# Altium footprint library PMP40182_PCB.PcbLib: 32 footprints (part 2 of 2)
Each footprint in its own frame and in the unit in brackets; x right, y up, seen from the top. Pads: shape width x height; smd on the part's side, far side on the other; paste and mask are expansions set on the pad; w line width, h text height; cw(c..) or ccw(c..) is an arc to the next point about the centre after c.
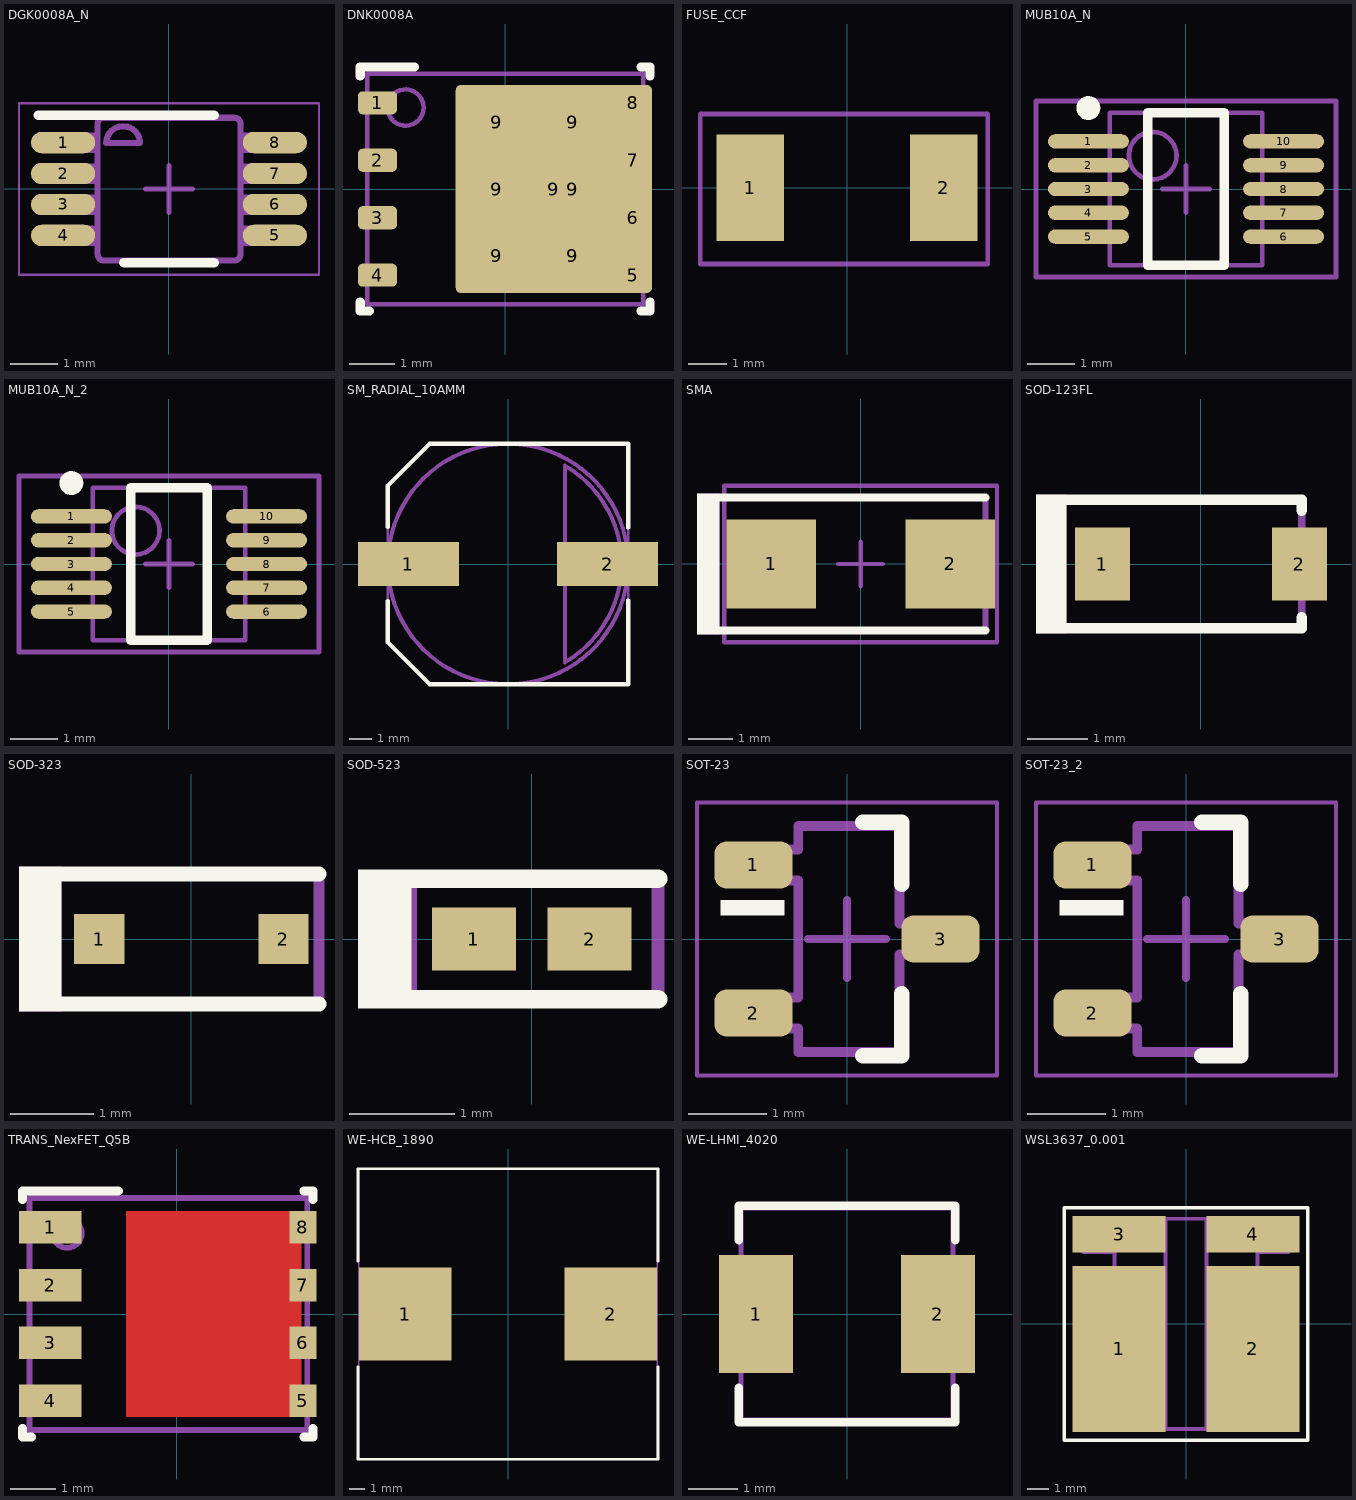
[diagram p1: the footprints below, top view; thin cyan lines are the x and y axes]

## DGK0008A_N [mm]
pads (8):
  oval 1.35x0.45 smd: 1(-2.225,0.975) 2(-2.225,0.325) 3(-2.225,-0.325) 4(-2.225,-0.975) 5(2.225,-0.975) 6(2.225,-0.325) 7(2.225,0.325) 8(2.225,0.975)
Top Overlay:
  lines w0.2: -2.75,1.55 0.95,1.55 ; -0.95,-1.55 0.95,-1.55
Mechanical 5:
  lines w0.127: -2.45,-1.131 -2.45,-0.826 -2.21,-0.826 -2.091,-0.826 -2.087,-0.826 -1.784,-0.826 -1.498,-0.826 -1.498,-1.131 -1.784,-1.131 -2.087,-1.131 -2.091,-1.131 -2.21,-1.131 -2.45,-1.131 ; -2.45,-0.48 -2.45,-0.175 -2.21,-0.175 -2.091,-0.175 -2.087,-0.175 -1.784,-0.175 -1.498,-0.175 -1.498,-0.48 -1.784,-0.48 -2.087,-0.48 -2.091,-0.48 -2.21,-0.48 -2.45,-0.48 ; -2.45,0.17 -2.45,0.475 -2.21,0.475 -2.091,0.475 -2.087,0.475 -1.784,0.475 -1.498,0.475 -1.498,0.17 -1.784,0.17 -2.087,0.17 -2.091,0.17 -2.21,0.17 -2.45,0.17 ; -2.45,0.82 -2.45,1.125 -2.21,1.125 -2.091,1.125 -2.087,1.125 -1.784,1.125 -1.498,1.125 -1.498,0.82 -1.784,0.82 -2.087,0.82 -2.091,0.82 -2.21,0.82 -2.45,0.82 ; -1.497,-1.377 ccw(c-1.37,-1.374) -1.373,-1.501 -1.371,-1.501 1.373,-1.501 1.375,-1.501 ccw(c1.373,-1.374) 1.5,-1.377 1.5,-1.374 1.5,1.369 1.5,1.372 ccw(c1.373,1.369) 1.375,1.496 1.373,1.496 -1.371,1.496 -1.373,1.496 ccw(c-1.37,1.369) -1.497,1.372 -1.498,1.369 -1.498,-1.374 -1.497,-1.377 ; -1.32,0.962 cw(c-0.964,0.962) -0.609,0.962 -1.32,0.962 ; 1.5,-1.131 1.786,-1.131 2.089,-1.131 2.093,-1.131 2.213,-1.131 2.452,-1.131 2.452,-0.826 2.213,-0.826 2.093,-0.826 2.089,-0.826 1.786,-0.826 1.5,-0.826 1.5,-1.131 ; 1.5,-0.48 1.786,-0.48 2.089,-0.48 2.093,-0.48 2.213,-0.48 2.452,-0.48 2.452,-0.175 2.213,-0.175 2.093,-0.175 2.089,-0.175 1.786,-0.175 1.5,-0.175 1.5,-0.48 ; 1.5,0.17 1.786,0.17 2.089,0.17 2.093,0.17 2.213,0.17 2.452,0.17 2.452,0.475 2.213,0.475 2.093,0.475 2.089,0.475 1.786,0.475 1.5,0.475 1.5,0.17 ; 1.5,0.82 1.786,0.82 2.089,0.82 2.093,0.82 2.213,0.82 2.452,0.82 2.452,1.125 2.213,1.125 2.093,1.125 2.089,1.125 1.786,1.125 1.5,1.125 1.5,0.82
  text ".Designator" at -1.15,-0.3 h0.64
Mechanical 15:
  lines w0.05: -3.15,-1.8 -3.15,1.8 3.15,1.8 3.15,-1.8 -3.15,-1.8
  lines w0.1: -0.5,0 0.5,0 ; 0,-0.5 0,0.5
3D body "DGK0008A.stp": height 0.96, standoff 0, extent -2.451,-1.499 2.451,1.499

## DNK0008A [mm]
pads (15):
  rrect39% 0.86x0.51 smd paste-0.05 mask-0.05: 1(-2.82,1.905) 2(-2.82,0.635) 3(-2.82,-0.635) 4(-2.82,-1.905) 5(2.82,-1.905) 6(2.82,-0.635) 7(2.82,0.635) 8(2.82,1.905)
  rrect50% 1.48x1.27 on Top Paste: 9(-0.18,-1.47) 9(-0.18,0) 9(-0.18,1.47) 9(1.5,-1.47) 9(1.5,0) 9(1.5,1.47)
  rrect5% 4.34x4.6 smd paste-3 mask-0.05: 9(1.08,0)
Top Overlay:
  lines w0.2: -3.2,-2.5 -3.2,-2.7 -3,-2.7 ; -3.2,2.5 -3.2,2.7 -2,2.7 ; 3,-2.7 3.2,-2.7 3.2,-2.5 ; 3,2.7 3.2,2.7 3.2,2.5
Mechanical 5:
  circle w0.1: c-2.2,1.8 r0.4
  lines w0.1: -3.05,-2.55 -3.05,2.55 3.05,2.55 3.05,-2.55 -3.05,-2.55
  text ".Designator" at -1.524,-0.508 h1.02
3D body: height 1.05, standoff 0, extent -3.05,-2.55 3.05,2.55
3D body: height 1.06, standoff 1.05, extent -2.599,1.401 -1.801,2.199

## FUSE_CCF [mil]
pads (2):
  rect 70x110 smd: 1(-100,0) 2(100,0)
Mechanical 5:
  lines w5: -151.6,-78.7 145.4,-78.7 145.4,76.3 -151.6,76.3 -151.6,-78.7
  text ".Designator" at -73,-20 h40

## MUB10A_N [mm]
pads (10):
  oval 1.7x0.3 smd: 1(-2.05,1) 2(-2.05,0.5) 3(-2.05,0) 4(-2.05,-0.5) 5(-2.05,-1) 6(2.05,-1) 7(2.05,-0.5) 8(2.05,0) 9(2.05,0.5) 10(2.05,1)
Top Overlay:
  circle w0.25: c-2.05,1.7 r0.125
  lines w0.2: -0.8,-1.6 -0.8,1.6 0.8,1.6 0.8,-1.6 -0.8,-1.6
Mechanical 5:
  text ".Designator" at -1.524,-0.508 h1.02
Mechanical 13:
  circle w0.1: c-0.7,0.7 r0.5
  lines w0.1: -1.6,-1.6 -1.6,1.6 1.6,1.6 1.6,-1.6 -1.6,-1.6
Mechanical 15:
  lines w0.1: -0.5,0 0.5,0 ; 0,-0.5 0,0.5 ; -3.15,-1.85 -3.15,1.85 3.15,1.85 3.15,-1.85 -3.15,-1.85
3D body: height 1.09, standoff 0, extent -1.6,-1.6 1.6,1.6

## MUB10A_N_2 [mm]
pads (10):
  oval 1.7x0.3 smd: 1(-2.05,1) 2(-2.05,0.5) 3(-2.05,0) 4(-2.05,-0.5) 5(-2.05,-1) 6(2.05,-1) 7(2.05,-0.5) 8(2.05,0) 9(2.05,0.5) 10(2.05,1)
Top Overlay:
  circle w0.25: c-2.05,1.7 r0.125
  lines w0.2: -0.8,-1.6 -0.8,1.6 0.8,1.6 0.8,-1.6 -0.8,-1.6
Mechanical 5:
  text ".Designator" at -1.524,-0.508 h1.02
Mechanical 13:
  circle w0.1: c-0.7,0.7 r0.5
  lines w0.1: -1.6,-1.6 -1.6,1.6 1.6,1.6 1.6,-1.6 -1.6,-1.6
Mechanical 15:
  lines w0.1: -0.5,0 0.5,0 ; 0,-0.5 0,0.5 ; -3.15,-1.85 -3.15,1.85 3.15,1.85 3.15,-1.85 -3.15,-1.85
3D body: height 1.09, standoff 0, extent -1.6,-1.6 1.6,1.6

## SM_RADIAL_10AMM [mm]
pads (2):
  rect 4.4x1.9 smd: 1(-4.35,0) 2(4.35,0)
Top Overlay:
  lines w0.178: -5.25,-1.624 -5.25,-3.425 -3.425,-5.25 5.25,-5.25 5.25,-1.597 ; -5.25,1.624 -5.25,3.425 -3.425,5.25 5.25,5.25 5.25,1.597
Mechanical 5:
  lines w0.127: -5.25,-3.425 -3.425,-5.25 5.25,-5.25 5.25,-1.597 5.25,1.597 5.25,5.25 -3.425,5.25 -5.25,3.425 -5.25,1.624 -5.25,-1.624 -5.25,-3.425
  text ".Designator" at -1.524,-0.508 h1.02
Mechanical 13:
  circle w0.178: c0,0 r5.25
  lines w0.178: 2.48,-4.296 ccw(c0,0) 2.48,4.296 2.48,-4.296
3D body: height 1, standoff 0, extent -5.251,-5.251 5.251,5.251
3D body: height 8, standoff 1, extent -5.249,-5.249 5.249,5.249
3D body: height 8, standoff 8, extent 2.48,-4.296 4.961,4.296

## SMA [mm]
pads (2):
  rect 2x2 smd: 1(-2,0) 2(2,0)
Top Overlay:
  rectangle: -3.658,-1.575 -3.15,1.575
  lines w0.178: -3.327,-1.486 2.794,-1.486 ; -3.327,1.486 2.794,1.486
Mechanical 5:
  rectangle: -3.658,-1.575 -3.15,1.575
  lines w0.127: -3.327,-1.486 2.794,-1.486 2.794,1.486 -3.327,1.486
  text ".Designator" at -2.769,-0.33 h1.02
Mechanical 15:
  lines w0.1: -0.5,0 0.5,0 ; 0,-0.5 0,0.5 ; -3.05,-1.75 -3.05,1.75 3.05,1.75 3.05,-1.75 -3.05,-1.75
3D body "SMA_nominal.stp": height 2.42, standoff 0.02, extent -2.6,-1.3 2.6,1.3

## SOD-123FL [mm]
pads (2):
  rect 0.915x1.22 smd: 1(-1.637,0) 2(1.637,0)
Top Overlay:
  rectangle: -2.743,-1.156 -2.235,1.156
  lines w0.178: -2.438,-1.067 1.676,-1.067 1.676,-0.889 ; -2.438,1.067 1.676,1.067 1.676,0.889
Mechanical 5:
  rectangle: -2.743,-1.156 -2.235,1.156
  lines w0.127: -2.438,-1.067 1.676,-1.067 1.676,1.067 -2.438,1.067
  text ".Designator" at -1.93,-0.229 h0.76
3D body "SOD-123FL.stp": height 1, standoff 0, extent -1.9,-0.9 1.9,0.9

## SOD-323 [mm]
pads (2):
  rect 0.6x0.6 smd paste-0.05: 1(-1.1,0) 2(1.1,0)
Top Overlay:
  rectangle: -2.057,-0.864 -1.549,0.864
  lines w0.178: -1.803,-0.775 0.1,-0.775 1.525,-0.775 ; -1.803,0.775 0.1,0.775 1.525,0.775
Mechanical 5:
  rectangle: -2.057,-0.864 -1.549,0.864
  lines w0.127: -1.803,-0.775 0.1,-0.775 1.525,-0.775 1.525,0.775 0.1,0.775 -1.803,0.775
  text ".Designator" at -1.4,-0.275 h0.76
3D body "SOD-323.stp": height 1.1, standoff 0, extent -1.3,-0.675 1.3,0.675

## SOD-523 [mm]
pads (2):
  rect 0.8x0.6 smd paste-0.05: 1(-0.55,0) 2(0.55,0)
Top Overlay:
  rectangle: -1.651,-0.66 -1.143,0.66
  lines w0.178: -1.475,-0.572 0,-0.572 1.2,-0.572 ; -1.475,0.572 0,0.572 1.2,0.572
Mechanical 5:
  rectangle: -1.6,-0.635 -1.092,0.635
  lines w0.127: -1.475,-0.546 0,-0.546 1.2,-0.546 1.2,0.546 0,0.559 -1.475,0.559
  text ".Designator" at -0.991,-0.279 h0.56
3D body "SOD-523F.stp": height 0.72, standoff 0.02, extent -0.8,-0.399 0.8,0.399

## SOT-23 [mm]
pads (3):
  rrect50% 1x0.6 smd: 1(-1.2,0.95) 2(-1.2,-0.95) 3(1.2,0)
Top Overlay:
  rectangle: -1.625,0.3 -0.8,0.5
  lines w0.2: 0.2,-1.5 0.7,-1.5 0.7,-0.7 ; 0.2,1.5 0.7,1.5 0.7,0.7
Mechanical 5:
  lines w0.127: -1.16,-1.15 -0.625,-1.15 -0.625,-1.45 0.675,-1.45 0.675,-0.2 1.21,-0.2 1.21,0.2 0.675,0.2 0.675,1.45 -0.625,1.45 -0.625,1.15 -1.16,1.15 -1.16,0.75 -0.625,0.75 -0.625,-0.75 -1.16,-0.75 -1.16,-1.15
  text ".Designator" at -0.175,1.225 h0.64
Mechanical 15:
  lines w0.05: -1.925,-1.75 -1.925,1.75 1.925,1.75 1.925,-1.75 -1.925,-1.75
  lines w0.1: -0.5,0 0.5,0 ; 0,-0.5 0,0.5
3D body "SW3dPS-sot-3p290x130ll237h100.STEP": height 1, standoff 0, extent -1.16,-1.45 1.21,1.45

## SOT-23_2 [mm]
pads (3):
  rrect50% 1x0.6 smd: 1(-1.2,0.95) 2(-1.2,-0.95) 3(1.2,0)
Top Overlay:
  rectangle: -1.625,0.3 -0.8,0.5
  lines w0.2: 0.2,-1.5 0.7,-1.5 0.7,-0.7 ; 0.2,1.5 0.7,1.5 0.7,0.7
Mechanical 5:
  lines w0.127: -1.16,-1.15 -1.16,-0.75 -0.625,-0.75 -0.625,0.75 -1.16,0.75 -1.16,1.15 -0.625,1.15 -0.625,1.45 0.675,1.45 0.675,0.2 1.21,0.2 1.21,-0.2 0.675,-0.2 0.675,-1.45 -0.625,-1.45 -0.625,-1.15 -1.16,-1.15
  text ".Designator" at -0.175,1.225 h0.64
Mechanical 15:
  lines w0.05: -1.925,-1.75 1.925,-1.75 1.925,1.75 -1.925,1.75 -1.925,-1.75
  lines w0.1: -0.5,0 0.5,0 ; 0,-0.5 0,0.5
3D body "SW3dPS-sot-3p290x130ll237h100.STEP": height 1, standoff 0, extent -1.16,-1.45 1.21,1.45

## TRANS_NexFET_Q5B [mm]
pads (8):
  rect 1.372x0.71 smd paste-0.4: 1(-2.776,1.905) 2(-2.776,0.635) 3(-2.776,-0.635) 4(-2.776,-1.905)
  rect 0.59x0.71 smd paste-0.3: 5(2.776,-1.905) 6(2.776,-0.635) 7(2.776,0.635) 8(2.776,1.905)
Top Layer:
  rectangle: -1.106,-2.26 2.744,2.26
Top Overlay:
  lines w0.2: -3.385,-2.52 -3.385,-2.7 -3.185,-2.7 ; -3.385,2.52 -3.385,2.7 -1.28,2.7 ; 2.8,-2.7 3,-2.7 3,-2.52 ; 2.8,2.7 3,2.7 3,2.52
Top Paste:
  rectangle: 0.723,0.15 2.017,0.896
  region: 0.373,0.896 -0.921,0.896 -0.921,0.15 0.373,0.15
  region: 0.373,-0.15 -0.921,-0.15 -0.921,-0.896 0.373,-0.896
  rectangle: 0.723,-0.896 2.017,-0.15
  region: 0.373,1.942 -0.921,1.942 -0.921,1.196 0.373,1.196
  rectangle: 0.723,1.196 2.017,1.942
  region: 0.373,-1.196 -0.921,-1.196 -0.921,-1.942 0.373,-1.942
  rectangle: 0.723,-1.942 2.017,-1.196
  rectangle: -3.312,1.624 -2.24,2.186
  rectangle: -3.312,0.354 -2.24,0.916
  rectangle: -3.312,-0.916 -2.24,-0.354
  rectangle: -3.312,-2.186 -2.24,-1.624
  rectangle: 2.303,1.651 3.069,2.159
  rectangle: 2.303,0.381 3.069,0.889
  rectangle: 2.303,-0.889 3.069,-0.381
  rectangle: 2.303,-2.159 3.069,-1.651
Mechanical 5:
  circle w0.127: c-2.405,1.775 r0.32
  lines w0.127: -3.23,-2.55 -3.23,2.55 2.875,2.55 2.875,-2.55 -3.23,-2.55
  text ".Designator" at -2.085,-0.505 h1.02
3D body: height 1.05, standoff 0, extent -3.229,-2.549 2.874,2.549
3D body: height 1.06, standoff 1, extent -2.725,1.455 -2.085,2.095

## WE-HCB_1890 [mm]
pads (2):
  rect 6x6 smd: 1(-6.65,0) 2(6.65,0)
Top Overlay:
  lines w0.17: -9.7,-3.4 -9.7,-9.4 9.7,-9.4 9.7,-3.4 ; -9.7,3.4 -9.7,9.4 9.7,9.4 9.7,3.4
Mechanical 5:
  lines w0.1: -9.65,-9.35 9.65,-9.35 9.65,9.35 -9.65,9.35 -9.65,-9.35
  text ".Designator" at -1.8,-0.5 h1.02
3D body: height 9.2, standoff 0, extent -9.649,-9.349 9.649,9.349

## WE-LHMI_4020 [mm]
pads (2):
  rect 1.5x2.4 smd: 1(-1.85,0) 2(1.85,0)
Top Overlay:
  lines w0.17: -2.2,-1.5 -2.2,-2.2 2.2,-2.2 2.2,-1.5 ; -2.2,1.5 -2.2,2.2 2.2,2.2 2.2,1.5
Mechanical 5:
  lines w0.1: -2.155,-2.155 -2.155,2.155 2.155,2.155 2.155,-2.155 -2.155,-2.155
  text ".Designator" at -1.8,-0.5 h1.02
3D body: height 2, standoff 0, extent -2.154,-2.154 2.154,2.154

## WSL3637_0.001 [mil]
pads (4):
  rect 168x300 smd: 1(-121,-45) 2(121,-45)
  rect 168x66 smd: 3(-121,162) 4(121,162)
Top Overlay:
  lines w7: -220,-210 220,-210 220,-140 220,210 -220,210 -220,-210
Mechanical 5:
  lines w5: -185,-190 -185,0 -185,98 -129,98 -129,130 -185,130 -185,190 0,190 185,190 185,130 129,130 129,98 185,98 185,0 185,-190 0,-190 -185,-190
  text ".Designator" at -71.85,-17.72 h40
Mechanical 13:
  lines w7: -37,-190 -37,190 ; 37,-190 37,190 ; -185,-190 0,-190 185,-190 185,0 185,98 129,98 129,130 185,130 185,190 0,190 -185,190 -185,130 -129,130 -129,98 -185,98 -185,0 -185,-190
3D body: height 35, standoff 0, extent 37.02,-189.98 184.98,189.98
3D body: height 35, standoff 0, extent -36.98,-189.98 36.98,189.98
3D body: height 35, standoff 0, extent -184.98,-189.98 -37.02,189.98